# EAGLE library part MAX9737 (library jkf)
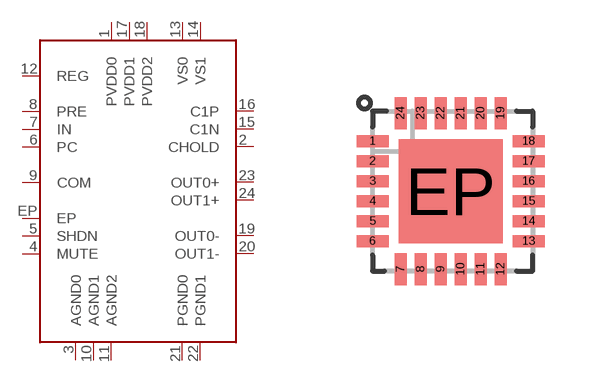
[diagram p3: symbol with the pads of TQFN24; footprint TQFN24]

Designator prefix IC

## MAX9737 (DIGIKEY#: MAX9737ETG+TCT-ND; MANF: Maxim; MANF#: MAX9737ETG+T)  [TQFN24]
1  PVDD0  pwr
2  CHOLD  out
3  AGND0  pwr
4  MUTE  in
5  SHDN  in
6  PC  in
7  IN  in
8  PRE  out
9  COM  in
10  AGND1  pwr
11  AGND2  pwr
12  REG  out
13  VS0  out
14  VS1  out
15  C1N  out
16  C1P  out
17  PVDD1  pwr
18  PVDD2  pwr
19  OUT0-  out
20  OUT1-  out
21  PGND0  pwr
22  PGND1  pwr
23  OUT0+  out
24  OUT1+  out
EP  EP  pas

## Footprint TQFN24 (pad centres in mm)
smd 0.8 x 0.3: 1 -1.95,1.25; 2 -1.95,0.75; 3 -1.95,0.25; 4 -1.95,-0.25; 5 -1.95,-0.75; 6 -1.95,-1.25; 13 1.95,-1.25; 14 1.95,-0.75; 15 1.95,-0.25; 16 1.95,0.25; 17 1.95,0.75; 18 1.95,1.25
smd 0.3 x 0.8: 7 -1.25,-1.95; 8 -0.75,-1.95; 9 -0.25,-1.95; 10 0.25,-1.95; 11 0.75,-1.95; 12 1.25,-1.95; 19 1.25,1.95; 20 0.75,1.95; 21 0.25,1.95; 22 -0.25,1.95; 23 -0.75,1.95; 24 -1.25,1.95
smd 2.6 x 2.6: EP 0,0